# EAGLE library part AE-NJL5901AR-8CH (library AE-NJL5901AR-8CH)
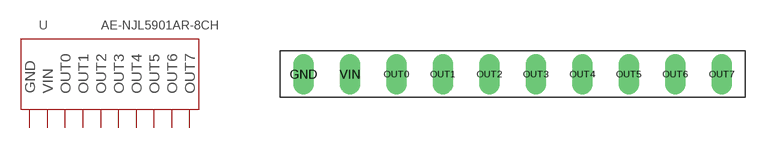
[diagram p0: symbol with the pads of AE-NJL5901AR-8CH; footprint AE-NJL5901AR-8CH]

Designator prefix -

## AE-NJL5901AR-8CH  [AE-NJL5901AR-8CH]
GND  GND  pwr
OUT0  OUT0  out
OUT1  OUT1  out
OUT2  OUT2  out
OUT3  OUT3  out
OUT4  OUT4  out
OUT5  OUT5  out
OUT6  OUT6  out
OUT7  OUT7  out
VIN  VIN  pwr

## Footprint AE-NJL5901AR-8CH (pad centres in mm)
drill 0.6 pad 1.016 long: GND -11.43,0; OUT0 -6.35,0; OUT1 -3.81,0; OUT2 -1.27,0; OUT3 1.27,0; OUT4 3.81,0; OUT5 6.35,0; OUT6 8.89,0; OUT7 11.43,0; VIN -8.89,0